# Altium footprint library Passive_components.PcbLib: 7 footprints
Each footprint in its own frame and in the unit in brackets; x right, y up, seen from the top. Pads: shape width x height; smd on the part's side, far side on the other; paste and mask are expansions set on the pad; w line width, h text height; cw(c..) or ccw(c..) is an arc to the next point about the centre after c.
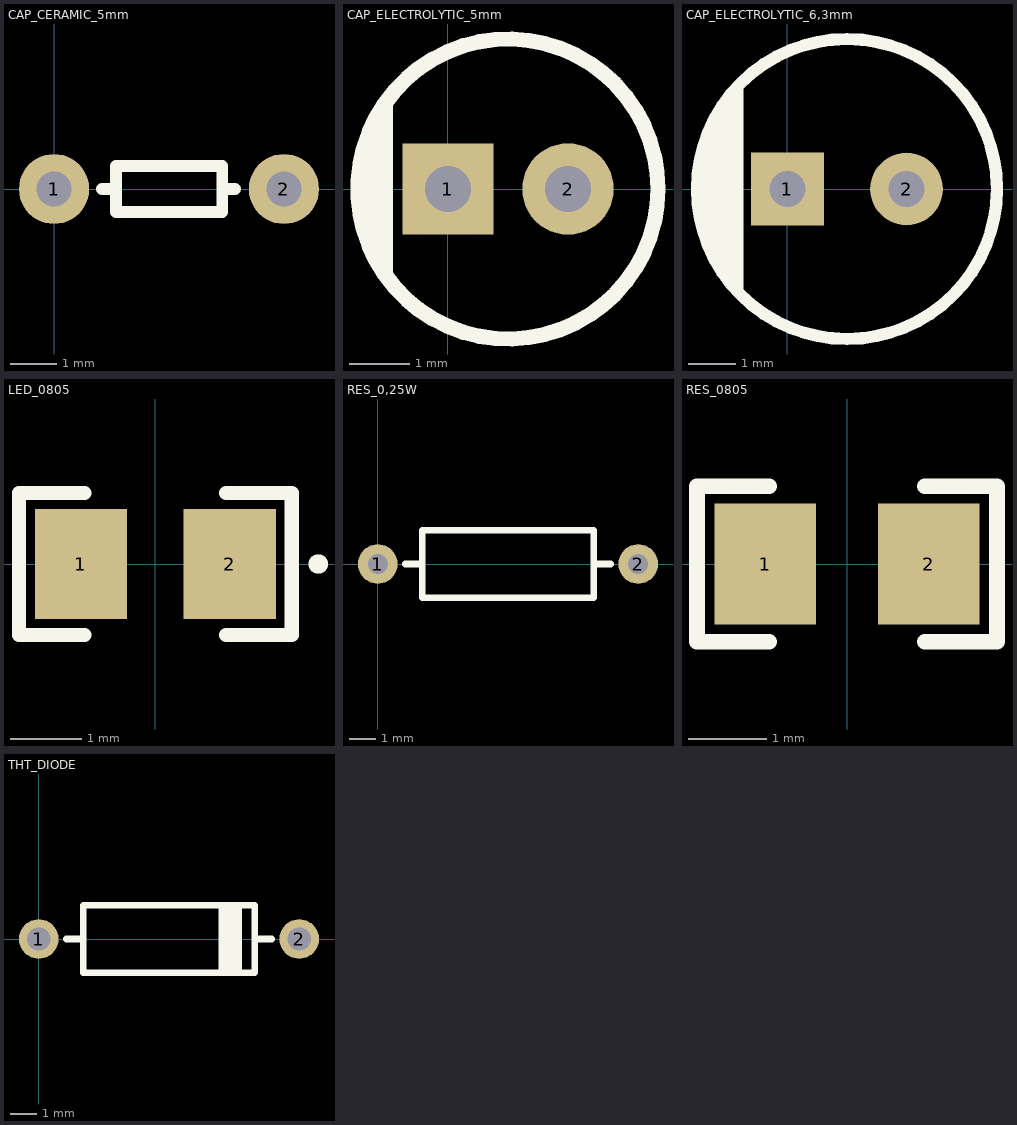
[diagram p0: the footprints below, top view; thin cyan lines are the x and y axes]

## CAP_CERAMIC_5mm [mil]
pads (2):
  round 60 hole 30: 1(0,0) 2(196.85,0)
Top Overlay:
  lines w10: 41,0 49.21,0 ; 147.64,0 155,0 ; 53,-19.68 144,-19.68 144,19.68 53,19.68 53,-19.68

## CAP_ELECTROLYTIC_5mm [mil]
pads (2):
  rect 60x60 hole 30: 1(0,0)
  round 60 hole 30: 2(78.74,0)
Top Overlay:
  circle w10: c39.37,0 r98.43
  rectangle: -55.12,-31.5 -47.24,31.5
  rectangle: -49.21,-49.21 -39.37,49.21
  lines w10: -41,-56 -41,-26.47 -41,32.58 -41,56

## CAP_ELECTROLYTIC_6,3mm [mil]
pads (2):
  rect 60x60 hole 30: 1(0,0)
  round 60 hole 30: 2(98.43,0)
Top Overlay:
  circle w10: c49.21,0 r124.02
  rectangle: -70.87,-43.31 -59.06,43.31
  rectangle: -62.99,-59.06 -51.18,59.06
  rectangle: -55.12,-74.8 -39.37,74.8
  lines w10: -41.37,-83.61 -41.37,83.61

## LED_0805 [mm]
height 0.7
pads (2):
  rect 1.3x1.55 smd: 1(-1.05,0) 2(1.05,0)
Top Overlay:
  circle w0.254: c2.3,0 r0.01
  lines w0.2: -1,-1 -1.7,-1 -1.925,-1 -1.925,1 -1.7,1 -1,1 ; 1,-1 1.7,-1 1.925,-1 1.925,1 1.7,1 1,1

## RES_0,25W [mil]
pads (2):
  round 60 hole 30: 1(0,0) 2(393.7,0)
Top Overlay:
  lines w10: 41.37,0 66.93,0 ; 326.77,0 352.33,0 ; 66.93,-51.18 326.77,-51.18 326.77,51.18 66.93,51.18 66.93,-51.18

## RES_0805 [mm]
height 0.7
pads (2):
  rect 1.3x1.55 smd: 1(-1.05,0) 2(1.05,0)
Top Overlay:
  lines w0.2: -1,-1 -1.7,-1 -1.925,-1 -1.925,1 -1.7,1 -1,1 ; 1,-1 1.7,-1 1.925,-1 1.925,1 1.7,1 1,1
3D body: height 0.7, standoff 0, extent 0.85,-0.725 1.15,0.725
3D body: height 0.7, standoff 0, extent -1.15,-0.725 -0.85,0.725
3D body: height 0.7, standoff 0, extent -0.85,-0.725 0.85,0.725

## THT_DIODE [mil]
pads (2):
  round 60 hole 35.43: 1(0,0) 2(393.7,0)
Top Overlay:
  rectangle: 271.65,-51.18 307.09,51.18
  lines w10: 41.37,0 66.93,0 ; 326.77,0 352.33,0 ; 66.93,-51.18 326.77,-51.18 326.77,51.18 66.93,51.18 66.93,-51.18